# EAGLE library part AP1501A (library TO-263-5)
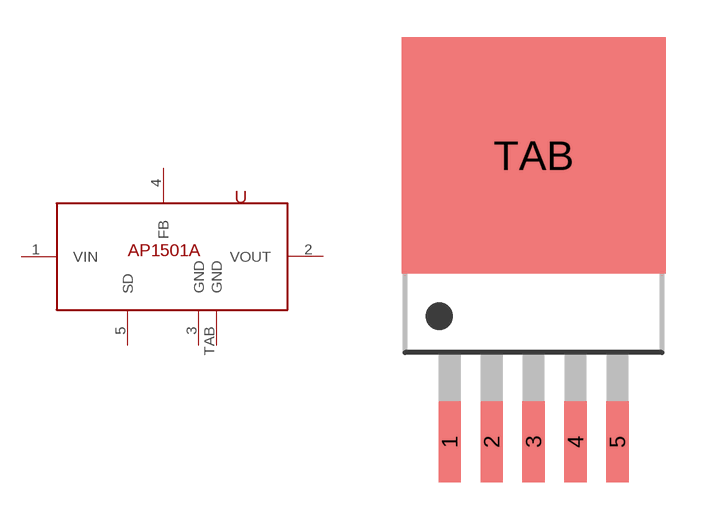
[diagram p0: symbol with the pads of TO-263-5; footprint TO-263-5]

Designator prefix U

## AP1501A  [TO-263-5]
1  VIN
2  VOUT
3  GND
4  FB
5  SD
TAB  GND

## Footprint TO-263-5 (pad centres in mm)
smd 0.9 x 3.3: 1 -3.4,0; 2 -1.7,0; 3 0,0; 4 1.7,0; 5 3.4,0
smd 10.7 x 9.6: TAB 0,11.616